# EAGLE library part AD9740 (library Mine)
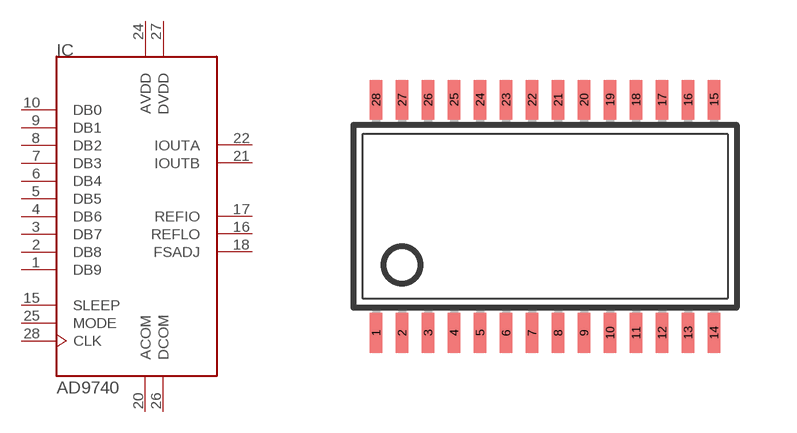
[diagram p53: symbol with the pads of TSSOP28; footprint TSSOP28]

Designator prefix IC

## AD9740  [TSSOP28]
1  DB9  in
2  DB8  in
3  DB7  in
4  DB6  in
5  DB5  in
6  DB4  in
7  DB3  in
8  DB2  in
9  DB1  in
10  DB0  in
15  SLEEP  in
16  REFLO  in
17  REFIO  in
18  FSADJ  in
20  ACOM  pwr
21  IOUTB  out
22  IOUTA  out
24  AVDD  pwr
25  MODE  in
26  DCOM  pwr
27  DVDD  pwr
28  CLK  in

## Footprint TSSOP28 (pad centres in mm)
Thin Shrink Small Outline Plastic 28 MAX3223-MAX3243.pdf
smd 0.305 x 0.991: 1 -4.225,-2.918; 2 -3.575,-2.918; 3 -2.925,-2.918; 4 -2.275,-2.918; 5 -1.625,-2.918; 6 -0.975,-2.918; 7 -0.325,-2.918; 8 0.325,-2.918; 9 0.975,-2.918; 10 1.625,-2.918; 11 2.275,-2.918; 12 2.925,-2.918; 13 3.575,-2.918; 14 4.225,-2.918; 15 4.225,2.918; 16 3.575,2.918; 17 2.925,2.918; 18 2.275,2.918; 19 1.625,2.918; 20 0.975,2.918; 21 0.325,2.918; 22 -0.325,2.918; 23 -0.975,2.918; 24 -1.625,2.918; 25 -2.275,2.918; 26 -2.925,2.918; 27 -3.575,2.918; 28 -4.225,2.918